# EAGLE library part SN74LVC374APWR (library SamacSys_Parts)
Texas Instruments SN74LVC374APWR, D Type Bus Interface Flip Flop, 3-State, 1.65 3.6 V, 20-Pin TSSOP Source: Datasheet <http://www.ti.com/lit/gpn/sn74lvc374a>
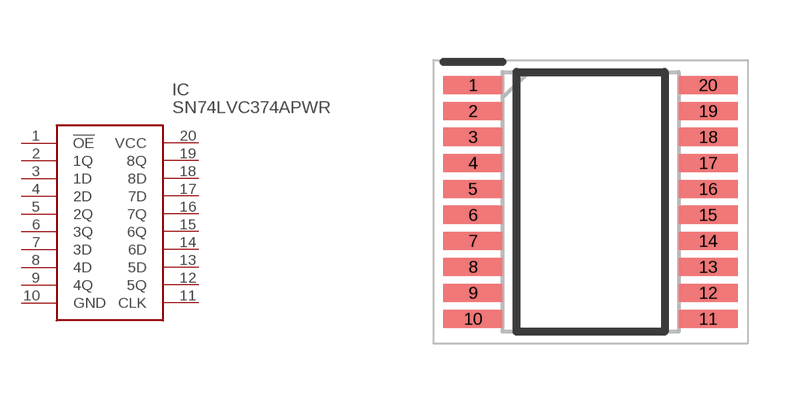
[diagram p24: symbol with the pads of SOP65P640X120-20N; footprint SOP65P640X120-20N]

Designator prefix IC

## SN74LVC374APWR (DESCRIPTION: Texas Instruments SN74LVC374APWR, D Type Bus Interface Flip Flop, 3-State, 1.65 3.6 V, 20-Pin TSSOP; HEIGHT: 1.2mm; MANUFACTURER_NAME: Texas Instruments; MANUFACTURER_PART_NUMBER: SN74LVC374APWR; MOUSER_PART_NUMBER: 595-SN74LVC374APWR; MOUSER_PRICE-STOCK: https://www.mouser.co.uk/ProductDetail/Texas-Instruments/SN74LVC374APWR?qs=VolsR0DjNPoXVR54f0icpw%3D%3D)  [SOP65P640X120-20N]
1  !OE
2  1Q
3  1D
4  2D
5  2Q
6  3Q
7  3D
8  4D
9  4Q
10  GND
11  CLK
12  5Q
13  5D
14  6D
15  6Q
16  7Q
17  7D
18  8D
19  8Q
20  VCC

## Footprint SOP65P640X120-20N (pad centres in mm)
PW (R-PDSO-G20)
smd 1.475 x 0.45: 1 -2.938,2.925; 2 -2.938,2.275; 3 -2.938,1.625; 4 -2.938,0.975; 5 -2.938,0.325; 6 -2.938,-0.325; 7 -2.938,-0.975; 8 -2.938,-1.625; 9 -2.938,-2.275; 10 -2.938,-2.925; 11 2.938,-2.925; 12 2.938,-2.275; 13 2.938,-1.625; 14 2.938,-0.975; 15 2.938,-0.325; 16 2.938,0.325; 17 2.938,0.975; 18 2.938,1.625; 19 2.938,2.275; 20 2.938,2.925